# Altium footprint library CBC2518T100M.PcbLib: 1 footprints
Each footprint in its own frame and in the unit in brackets; x right, y up, seen from the top. Pads: shape width x height; smd on the part's side, far side on the other; paste and mask are expansions set on the pad; w line width, h text height; cw(c..) or ccw(c..) is an arc to the next point about the centre after c.
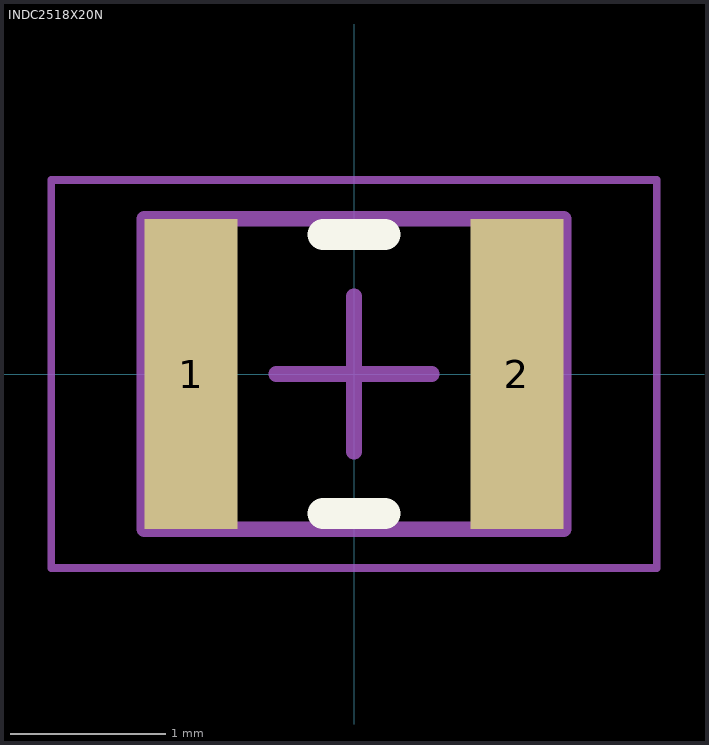
[diagram p0: the footprint, top view; thin cyan lines are the x and y axes]

## INDC2518X20N [mm] "Chip Inductor, 2-Leads, Body 2.50x1.80mm, IPC Medium Density"
height 2
pads (2):
  rect 0.6x2 smd: 1(-1.05,0) 2(1.05,0)
Top Overlay:
  lines w0.2: -0.2,-0.9 0.2,-0.9 ; -0.2,0.9 0.2,0.9
Mechanical 13:
  lines w0.1: -1.35,-1 1.35,-1 1.35,1 -1.35,1 -1.35,-1
Mechanical 15:
  lines w0.05: -1.95,-1.25 1.95,-1.25 1.95,1.25 -1.95,1.25 -1.95,-1.25
  lines w0.1: -0.5,0 0.5,0 ; 0,-0.5 0,0.5
3D body: height 2, standoff 0, extent 0.85,-1 1.35,1
3D body: height 2, standoff 0, extent -1.35,-1 -0.85,1
3D body: height 2, standoff 0, extent -0.85,-1 0.85,1